# Altium integrated library Linear Technology Power Management Power-Over-Ethernet (PoE) Interface Controllers.IntLib: 174 symbols (part 6 of 16)
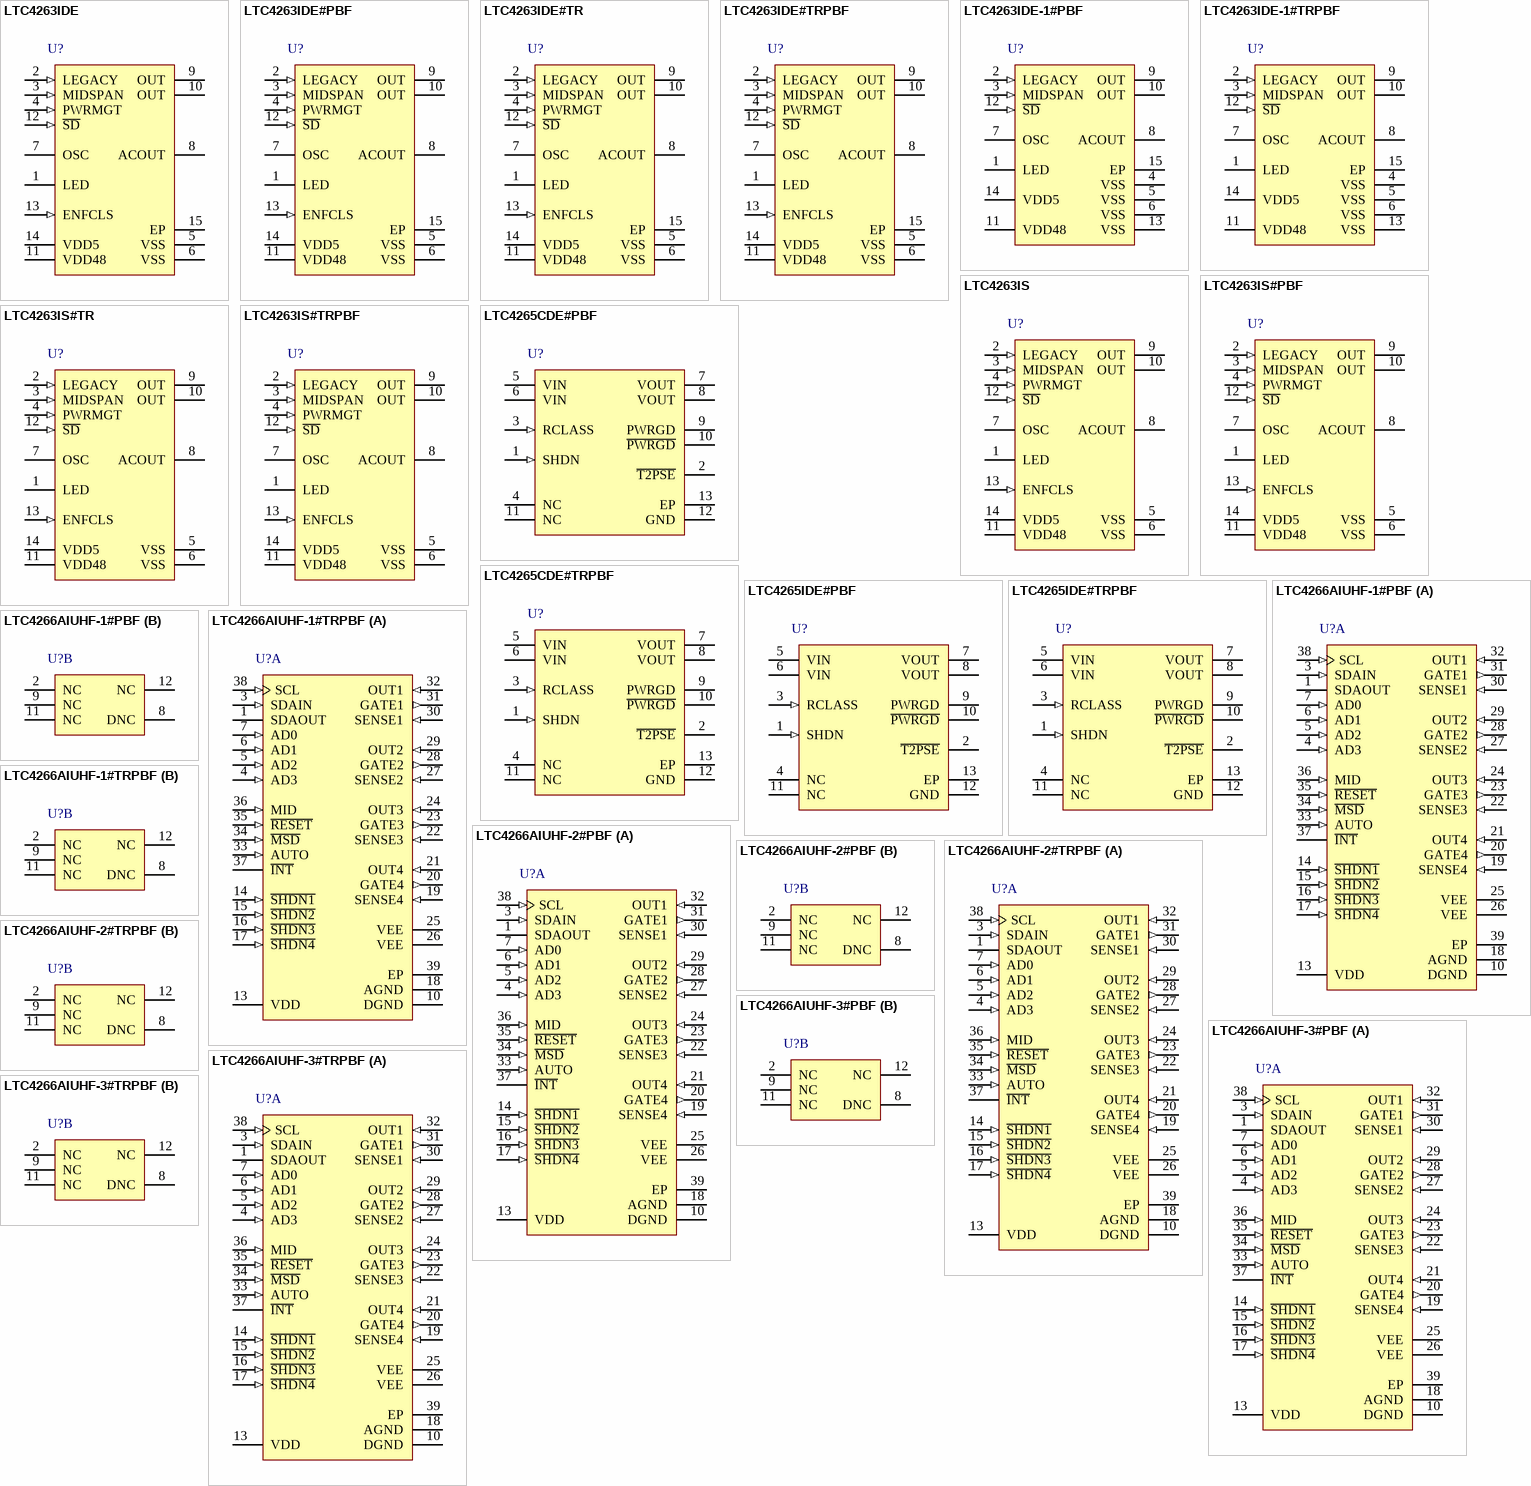
[diagram p13: symbols LTC4263IDE to LTC4266AIUHF-3#TRPBF]

## LTC4266AIUHF-3#PBF
designator U?
Quad PoE / PoE+ / LTPoE++ PSE Controller, 38-pin QFN (UHF-38), -40 to 85 degC, Pb-Free; Manufacturer: Linear Technology; PartNumber: LTC4266AIUHF-3#PBF; Channels(#): 4; Extended Temp: I; I2C Interface: yes; Max Power(W): 70; DatasheetVersion: Rev. C; PackageVersion: Rev. C, 06/2010; PackageReference: UHF-38; PackageDescription: 38-Pin Plastic QFN, Body 7 x 5 mm, Pitch 0.5 mm; Supplier 1: Digi-Key; Supplier Part Number 1: LTC4266AIUHF-3#PBF-ND; Supplier 2: Farnell; Supplier Part Number 2: 2293145; Supplier 3: Newark; Supplier Part Number 3: 59T5702; PoE Type: LTPoE++; PSE/PD: PSE; RoHS: TRUE; Mounting Technology: Surface Mount; Code_JEDEC: MO-220; ComponentLink1Description: Manufacturer URL; ComponentLink1URL: http://www.linear.com/; ComponentLink2Description: Datasheet; ComponentLink2URL: http://cds.linear.com/docs/en/datasheet/4266acfc.pdf; ComponentLink3Description: Package Specification; ComponentLink3URL: http://cds.linear.com/docs/en/packaging/QFN_38_05-08-1701.pdf
footprint LT-UHF-38_N (QFN, 38-Leads, Body 7.1x5.1mm, Pitch 0.5mm, Thermal Pad 3.15x5.15mm, IPC Medium Density)
footprint LT-UHF-38_L (QFN, 38-Leads, Body 7.1x5.1mm, Pitch 0.5mm, Thermal Pad 3.15x5.15mm, IPC High Density)
footprint LT-UHF-38_M (QFN, 38-Leads, Body 7.1x5.1mm, Pitch 0.5mm, Thermal Pad 3.15x5.15mm, IPC Low Density)
part A pins: 1 SDAOUT (oc) "SDAOUT: Serial Data Output, Open Drain Data Output for the I2C Serial Interface Bus. The LTC4266A/LTC4266C uses two pins to implement the bidirectional SDA function to simplify optoisolation of the I2C bus. To implement a (See Datasheet)", 3 SDAIN (in) "SDAIN: Serial Data Input. High impedance data input for the I2C serial interface bus. The LTC4266A/LTC4266C uses two pins to implement the bidirectional SDA function to simplify optoisolation of the I2C bus. To implement a (See Datasheet)", 4 AD3 (in) "AD3: Address Bit 3. Tie the address pins high or low to set the I2C serial address to which the LTC4266A/LTC4266C responds. This address will be 010A3A2A1A0b. Internally pulled up to VDD.", 5 AD2 (in) "AD2: Address Bit 2. See AD3.", 6 AD1 (in) "AD1: Address Bit 1. See AD3.", 7 AD0 (in) "AD0: Address Bit 0. See AD3.", 10 DGND (power) "DGND: Digital Ground. DGND is the return for the VDD supply.", 13 VDD (power) "VDD: Logic Power Supply. Connect to a 3.3V power supply relative to DGND. VDD must be bypassed to DGND near the LTC4266A/LTC4266C with at least a 0.1uF capacitor.", 14 ~{SHDN1} (in) "S\H\D\N\1\: Shutdown Port 1, Active Low. When pulled low, S\H\D\N\1\ shuts down port 1, regardless of the state of the internal registers. Pulling S\H\D\N\1\ low is equivalent to setting the Reset Port 1 bit in the Reset (See Datasheet)", 15 ~{SHDN2} (in) "S\H\D\N\2\: Shutdown Port 2, Active Low. See S\H\D\N\1\.", 16 ~{SHDN3} (in) "S\H\D\N\3\: Shutdown Port 3, Active Low. See S\H\D\N\1\.", 17 ~{SHDN4} (in) "S\H\D\N\4\: Shutdown Port 4, Active Low. See S\H\D\N\1\.", 18 AGND (power) "AGND: Analog Ground. AGND is the return for the VEE supply.", 19 SENSE4 (in) "SENSE4: Port 4 Current Sense Input. SENSE4 monitors the external MOSFET current via a 0.5ohm or 0.25ohm sense resistor between SENSE4 and VEE. Whenever the voltage across the sense resistor exceeds the overcurrent detection (See Datasheet)", 20 GATE4 (out) "GATE4: Port 4 Gate Drive. GATE4 should be connected to the gate of the external MOSFET for port 4. When the MOSFET is turned on, the gate voltage is driven to 12V (typ) above VEE. During a current limit condition, the (See Datasheet)", 21 OUT4 (in) "OUT4: Port 4 Output Voltage Monitor. OUT4 should be connected to the output port. A current limit foldback circuit limits the power dissipation in the external MOSFET by reducing the current limit threshold when the (See Datasheet)", 22 SENSE3 (in) "SENSE3: Port 3 Current Sense Input. See SENSE4.", 23 GATE3 (out) "GATE3: Port 3 Gate Drive. See GATE4.", 24 OUT3 (in) "OUT3: Port 3 Output Voltage Monitor. See OUT4.", 25 VEE (power) "VEE: Main Supply Input. Connect to a -45V to -57V supply, relative to AGND.", 26 VEE (power) "VEE: Main Supply Input. Connect to a -45V to -57V supply, relative to AGND.", 27 SENSE2 (in) "SENSE2: Port 2 Current Sense Input. See SENSE4.", 28 GATE2 (out) "GATE2: Port 2 Gate Drive. See GATE4.", 29 OUT2 (in) "OUT2: Port 2 Output Voltage Monitor. See OUT4.", 30 SENSE1 (in) "SENSE1: Port 1 Current Sense Input. See SENSE4.", 31 GATE1 (out) "GATE1: Port 1 Gate Drive. See GATE 4.", 32 OUT1 (in) "OUT1: Port 1 Output Voltage Monitor. See OUT4.", 33 AUTO (in) "AUTO: AUTO Pin Mode Input. AUTO pin mode allows the LTC4266A/LTC4266C to detect and power up a PD even if there is no host controller present on the I2C bus. The voltage of the AUTO pin determines the state of the internal (See Datasheet)", 34 ~{MSD} (in) "M\S\D\: Maskable Shutdown Input. Active low. When pulled low, all ports that have their corresponding mask bit set in the Misc Config register (17h) will be reset, equivalent to pulling the S\H\D\N\ pin low. Internal (See Datasheet)", 35 ~{RESET} (in) "R\E\S\E\T\: Chip R\E\S\E\T\, Active Low. When the R\E\S\E\T\ pin is low, the LTC4266A/LTC4266C is held inactive with all ports off and all internal registers R\E\S\E\T\ to their power-up states. When R\E\S\E\T\ is pulled (See Datasheet)", 36 MID (in) "MID: Midspan Mode Input. When high, the LTC4266A/LTC4266C acts as a midspan device. Internally pulled down to DGND.", 37 ~{INT} (hiz) "I\N\T\: I\N\T\errupt Output, Open Drain. I\N\T\ will pull low when any one of several events occur in the LTC4266A/LTC4266C. It will return to a high impedance state when bits 6 or 7 are set in the Reset PB register (1Ah). (See Datasheet)", 38 SCL (in) "SCL: Serial Clock Input. High impedance clock input for the I2C serial interface bus. SCL must be tied high if not used.", 39 EP (power)
part B pins: 2 NC "NC, DNC: All pins identified with "NC" or "DNC" must be left unconnected.", 8 DNC "NC, DNC: All pins identified with "NC" or "DNC" must be left unconnected.", 9 NC "NC, DNC: All pins identified with "NC" or "DNC" must be left unconnected.", 11 NC "NC, DNC: All pins identified with "NC" or "DNC" must be left unconnected.", 12 NC "NC, DNC: All pins identified with "NC" or "DNC" must be left unconnected."

## LTC4266AIUHF-3#TRPBF
designator U?
Quad PoE / PoE+ / LTPoE++ PSE Controller, 38-pin QFN (UHF-38), -40 to 85 degC, Pb-Free, Tape and Reel; Manufacturer: Linear Technology; PartNumber: LTC4266AIUHF-3#TRPBF; Channels(#): 4; Extended Temp: I; I2C Interface: yes; Max Power(W): 70; DatasheetVersion: Rev. C; PackageVersion: Rev. C, 06/2010; PackageReference: UHF-38; PackageDescription: 38-Pin Plastic QFN, Body 7 x 5 mm, Pitch 0.5 mm; Supplier 1: Digi-Key; Supplier Part Number 1: LTC4266AIUHF-3#TRPBF-ND; Packing: Tape and Reel; PoE Type: LTPoE++; PSE/PD: PSE; RoHS: TRUE; Mounting Technology: Surface Mount; Code_JEDEC: MO-220; ComponentLink1Description: Manufacturer URL; ComponentLink1URL: http://www.linear.com/; ComponentLink2Description: Datasheet; ComponentLink2URL: http://cds.linear.com/docs/en/datasheet/4266acfc.pdf; ComponentLink3Description: Package Specification; ComponentLink3URL: http://cds.linear.com/docs/en/packaging/QFN_38_05-08-1701.pdf
footprint LT-UHF-38_N (QFN, 38-Leads, Body 7.1x5.1mm, Pitch 0.5mm, Thermal Pad 3.15x5.15mm, IPC Medium Density)
footprint LT-UHF-38_L (QFN, 38-Leads, Body 7.1x5.1mm, Pitch 0.5mm, Thermal Pad 3.15x5.15mm, IPC High Density)
footprint LT-UHF-38_M (QFN, 38-Leads, Body 7.1x5.1mm, Pitch 0.5mm, Thermal Pad 3.15x5.15mm, IPC Low Density)
part A pins: 1 SDAOUT (oc) "SDAOUT: Serial Data Output, Open Drain Data Output for the I2C Serial Interface Bus. The LTC4266A/LTC4266C uses two pins to implement the bidirectional SDA function to simplify optoisolation of the I2C bus. To implement a (See Datasheet)", 3 SDAIN (in) "SDAIN: Serial Data Input. High impedance data input for the I2C serial interface bus. The LTC4266A/LTC4266C uses two pins to implement the bidirectional SDA function to simplify optoisolation of the I2C bus. To implement a (See Datasheet)", 4 AD3 (in) "AD3: Address Bit 3. Tie the address pins high or low to set the I2C serial address to which the LTC4266A/LTC4266C responds. This address will be 010A3A2A1A0b. Internally pulled up to VDD.", 5 AD2 (in) "AD2: Address Bit 2. See AD3.", 6 AD1 (in) "AD1: Address Bit 1. See AD3.", 7 AD0 (in) "AD0: Address Bit 0. See AD3.", 10 DGND (power) "DGND: Digital Ground. DGND is the return for the VDD supply.", 13 VDD (power) "VDD: Logic Power Supply. Connect to a 3.3V power supply relative to DGND. VDD must be bypassed to DGND near the LTC4266A/LTC4266C with at least a 0.1uF capacitor.", 14 ~{SHDN1} (in) "S\H\D\N\1\: Shutdown Port 1, Active Low. When pulled low, S\H\D\N\1\ shuts down port 1, regardless of the state of the internal registers. Pulling S\H\D\N\1\ low is equivalent to setting the Reset Port 1 bit in the Reset (See Datasheet)", 15 ~{SHDN2} (in) "S\H\D\N\2\: Shutdown Port 2, Active Low. See S\H\D\N\1\.", 16 ~{SHDN3} (in) "S\H\D\N\3\: Shutdown Port 3, Active Low. See S\H\D\N\1\.", 17 ~{SHDN4} (in) "S\H\D\N\4\: Shutdown Port 4, Active Low. See S\H\D\N\1\.", 18 AGND (power) "AGND: Analog Ground. AGND is the return for the VEE supply.", 19 SENSE4 (in) "SENSE4: Port 4 Current Sense Input. SENSE4 monitors the external MOSFET current via a 0.5ohm or 0.25ohm sense resistor between SENSE4 and VEE. Whenever the voltage across the sense resistor exceeds the overcurrent detection (See Datasheet)", 20 GATE4 (out) "GATE4: Port 4 Gate Drive. GATE4 should be connected to the gate of the external MOSFET for port 4. When the MOSFET is turned on, the gate voltage is driven to 12V (typ) above VEE. During a current limit condition, the (See Datasheet)", 21 OUT4 (in) "OUT4: Port 4 Output Voltage Monitor. OUT4 should be connected to the output port. A current limit foldback circuit limits the power dissipation in the external MOSFET by reducing the current limit threshold when the (See Datasheet)", 22 SENSE3 (in) "SENSE3: Port 3 Current Sense Input. See SENSE4.", 23 GATE3 (out) "GATE3: Port 3 Gate Drive. See GATE4.", 24 OUT3 (in) "OUT3: Port 3 Output Voltage Monitor. See OUT4.", 25 VEE (power) "VEE: Main Supply Input. Connect to a -45V to -57V supply, relative to AGND.", 26 VEE (power) "VEE: Main Supply Input. Connect to a -45V to -57V supply, relative to AGND.", 27 SENSE2 (in) "SENSE2: Port 2 Current Sense Input. See SENSE4.", 28 GATE2 (out) "GATE2: Port 2 Gate Drive. See GATE4.", 29 OUT2 (in) "OUT2: Port 2 Output Voltage Monitor. See OUT4.", 30 SENSE1 (in) "SENSE1: Port 1 Current Sense Input. See SENSE4.", 31 GATE1 (out) "GATE1: Port 1 Gate Drive. See GATE 4.", 32 OUT1 (in) "OUT1: Port 1 Output Voltage Monitor. See OUT4.", 33 AUTO (in) "AUTO: AUTO Pin Mode Input. AUTO pin mode allows the LTC4266A/LTC4266C to detect and power up a PD even if there is no host controller present on the I2C bus. The voltage of the AUTO pin determines the state of the internal (See Datasheet)", 34 ~{MSD} (in) "M\S\D\: Maskable Shutdown Input. Active low. When pulled low, all ports that have their corresponding mask bit set in the Misc Config register (17h) will be reset, equivalent to pulling the S\H\D\N\ pin low. Internal (See Datasheet)", 35 ~{RESET} (in) "R\E\S\E\T\: Chip R\E\S\E\T\, Active Low. When the R\E\S\E\T\ pin is low, the LTC4266A/LTC4266C is held inactive with all ports off and all internal registers R\E\S\E\T\ to their power-up states. When R\E\S\E\T\ is pulled (See Datasheet)", 36 MID (in) "MID: Midspan Mode Input. When high, the LTC4266A/LTC4266C acts as a midspan device. Internally pulled down to DGND.", 37 ~{INT} (hiz) "I\N\T\: I\N\T\errupt Output, Open Drain. I\N\T\ will pull low when any one of several events occur in the LTC4266A/LTC4266C. It will return to a high impedance state when bits 6 or 7 are set in the Reset PB register (1Ah). (See Datasheet)", 38 SCL (in) "SCL: Serial Clock Input. High impedance clock input for the I2C serial interface bus. SCL must be tied high if not used.", 39 EP (power)
part B pins: 2 NC "NC, DNC: All pins identified with "NC" or "DNC" must be left unconnected.", 8 DNC "NC, DNC: All pins identified with "NC" or "DNC" must be left unconnected.", 9 NC "NC, DNC: All pins identified with "NC" or "DNC" must be left unconnected.", 11 NC "NC, DNC: All pins identified with "NC" or "DNC" must be left unconnected.", 12 NC "NC, DNC: All pins identified with "NC" or "DNC" must be left unconnected."

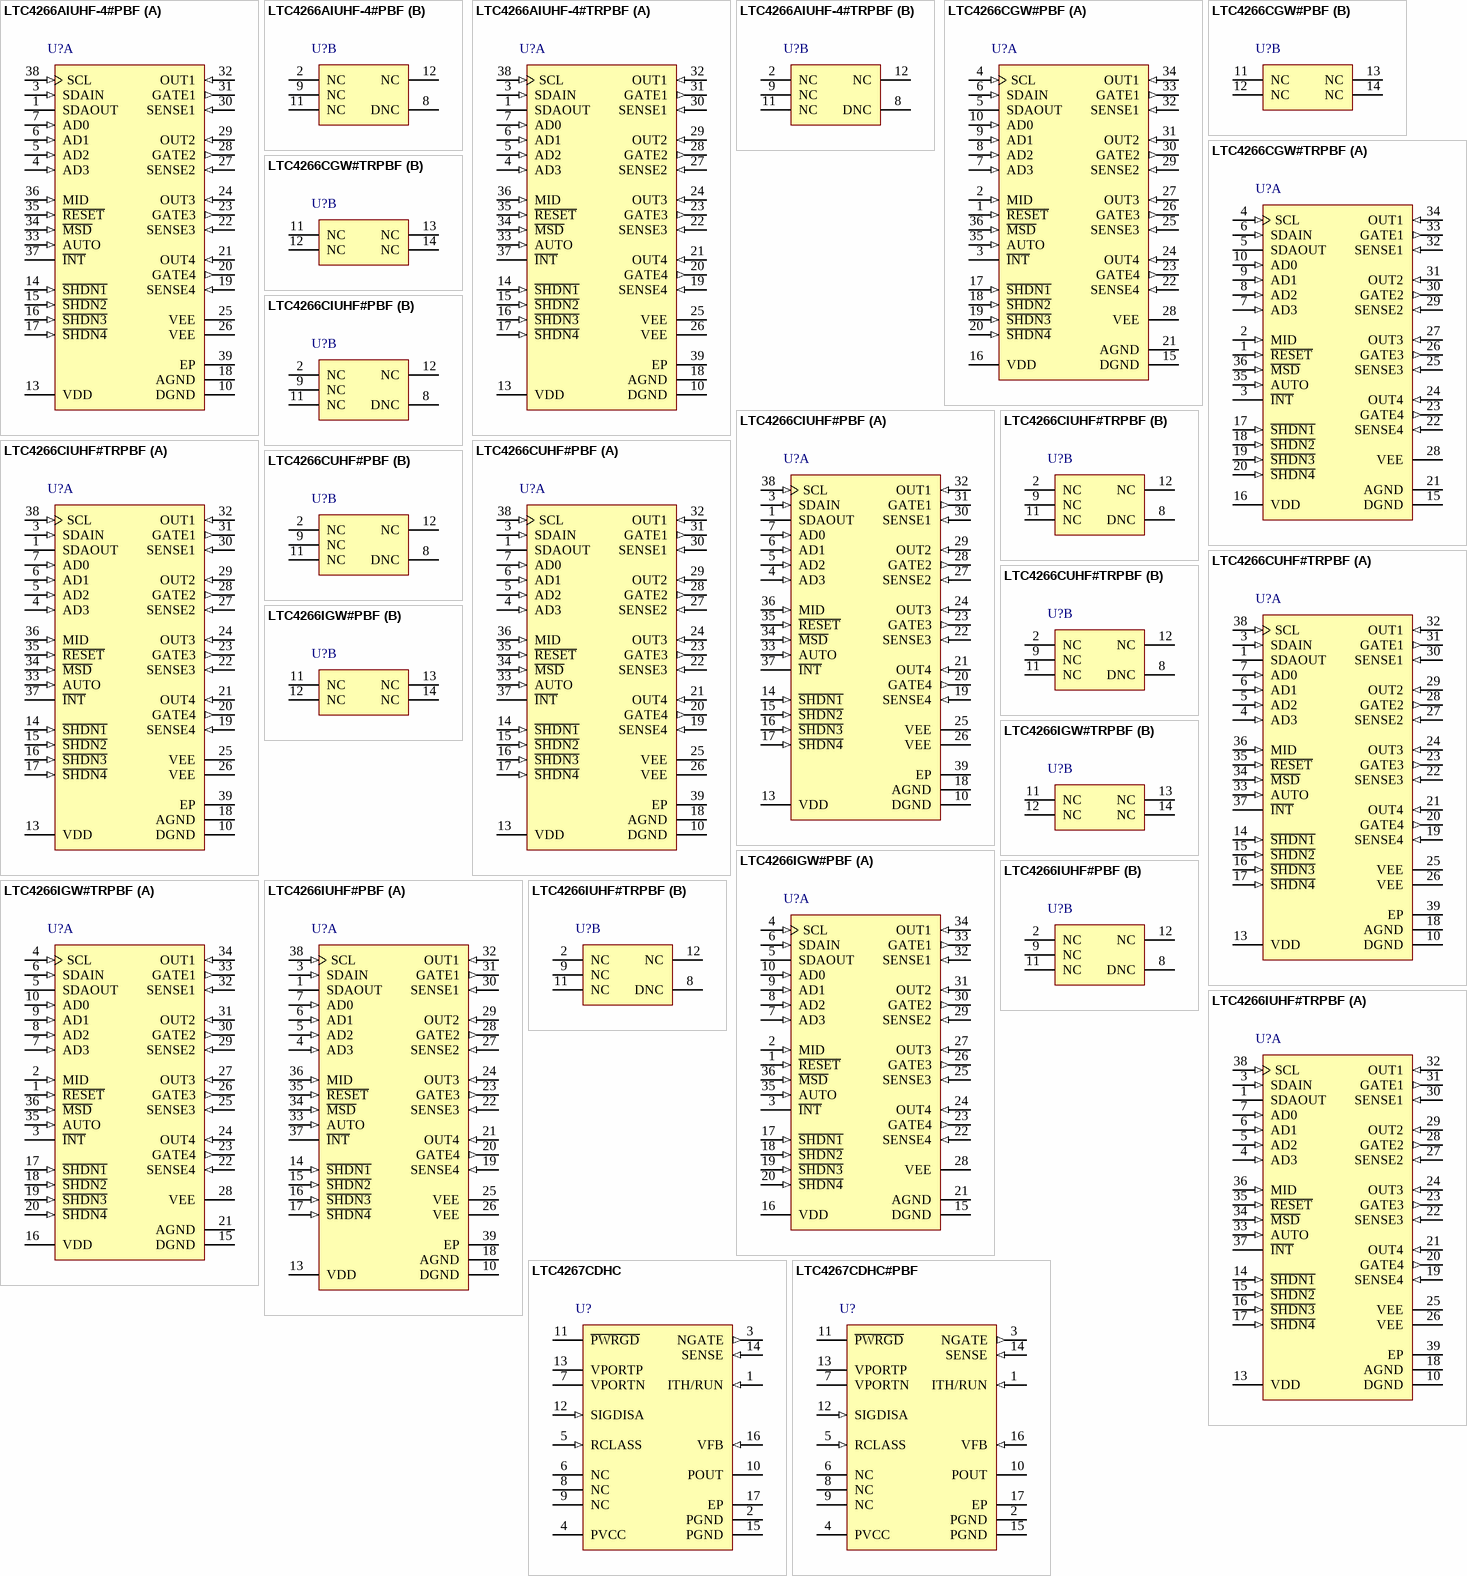
[diagram p3: symbols LTC4266AIUHF-4#PBF to LTC4267CDHC#PBF]

## LTC4266AIUHF-4#PBF
designator U?
Quad PoE / PoE+ / LTPoE++ PSE Controller, 38-pin QFN (UHF-38), -40 to 85 degC, Pb-Free; Manufacturer: Linear Technology; PartNumber: LTC4266AIUHF-4#PBF; Channels(#): 4; Extended Temp: I; I2C Interface: yes; Max Power(W): 90; DatasheetVersion: Rev. C; PackageVersion: Rev. C, 06/2010; PackageReference: UHF-38; PackageDescription: 38-Pin Plastic QFN, Body 7 x 5 mm, Pitch 0.5 mm; Supplier 1: Digi-Key; Supplier Part Number 1: LTC4266AIUHF-4#PBF-ND; Supplier 2: Farnell; Supplier Part Number 2: 2293147; Supplier 3: Newark; Supplier Part Number 3: 59T5704; PoE Type: LTPoE++; PSE/PD: PSE; RoHS: TRUE; Mounting Technology: Surface Mount; Code_JEDEC: MO-220; ComponentLink1Description: Manufacturer URL; ComponentLink1URL: http://www.linear.com/; ComponentLink2Description: Datasheet; ComponentLink2URL: http://cds.linear.com/docs/en/datasheet/4266acfc.pdf; ComponentLink3Description: Package Specification; ComponentLink3URL: http://cds.linear.com/docs/en/packaging/QFN_38_05-08-1701.pdf
footprint LT-UHF-38_N (QFN, 38-Leads, Body 7.1x5.1mm, Pitch 0.5mm, Thermal Pad 3.15x5.15mm, IPC Medium Density)
footprint LT-UHF-38_L (QFN, 38-Leads, Body 7.1x5.1mm, Pitch 0.5mm, Thermal Pad 3.15x5.15mm, IPC High Density)
footprint LT-UHF-38_M (QFN, 38-Leads, Body 7.1x5.1mm, Pitch 0.5mm, Thermal Pad 3.15x5.15mm, IPC Low Density)
part A pins: 1 SDAOUT (oc) "SDAOUT: Serial Data Output, Open Drain Data Output for the I2C Serial Interface Bus. The LTC4266A/LTC4266C uses two pins to implement the bidirectional SDA function to simplify optoisolation of the I2C bus. To implement a (See Datasheet)", 3 SDAIN (in) "SDAIN: Serial Data Input. High impedance data input for the I2C serial interface bus. The LTC4266A/LTC4266C uses two pins to implement the bidirectional SDA function to simplify optoisolation of the I2C bus. To implement a (See Datasheet)", 4 AD3 (in) "AD3: Address Bit 3. Tie the address pins high or low to set the I2C serial address to which the LTC4266A/LTC4266C responds. This address will be 010A3A2A1A0b. Internally pulled up to VDD.", 5 AD2 (in) "AD2: Address Bit 2. See AD3.", 6 AD1 (in) "AD1: Address Bit 1. See AD3.", 7 AD0 (in) "AD0: Address Bit 0. See AD3.", 10 DGND (power) "DGND: Digital Ground. DGND is the return for the VDD supply.", 13 VDD (power) "VDD: Logic Power Supply. Connect to a 3.3V power supply relative to DGND. VDD must be bypassed to DGND near the LTC4266A/LTC4266C with at least a 0.1uF capacitor.", 14 ~{SHDN1} (in) "S\H\D\N\1\: Shutdown Port 1, Active Low. When pulled low, S\H\D\N\1\ shuts down port 1, regardless of the state of the internal registers. Pulling S\H\D\N\1\ low is equivalent to setting the Reset Port 1 bit in the Reset (See Datasheet)", 15 ~{SHDN2} (in) "S\H\D\N\2\: Shutdown Port 2, Active Low. See S\H\D\N\1\.", 16 ~{SHDN3} (in) "S\H\D\N\3\: Shutdown Port 3, Active Low. See S\H\D\N\1\.", 17 ~{SHDN4} (in) "S\H\D\N\4\: Shutdown Port 4, Active Low. See S\H\D\N\1\.", 18 AGND (power) "AGND: Analog Ground. AGND is the return for the VEE supply.", 19 SENSE4 (in) "SENSE4: Port 4 Current Sense Input. SENSE4 monitors the external MOSFET current via a 0.5ohm or 0.25ohm sense resistor between SENSE4 and VEE. Whenever the voltage across the sense resistor exceeds the overcurrent detection (See Datasheet)", 20 GATE4 (out) "GATE4: Port 4 Gate Drive. GATE4 should be connected to the gate of the external MOSFET for port 4. When the MOSFET is turned on, the gate voltage is driven to 12V (typ) above VEE. During a current limit condition, the (See Datasheet)", 21 OUT4 (in) "OUT4: Port 4 Output Voltage Monitor. OUT4 should be connected to the output port. A current limit foldback circuit limits the power dissipation in the external MOSFET by reducing the current limit threshold when the (See Datasheet)", 22 SENSE3 (in) "SENSE3: Port 3 Current Sense Input. See SENSE4.", 23 GATE3 (out) "GATE3: Port 3 Gate Drive. See GATE4.", 24 OUT3 (in) "OUT3: Port 3 Output Voltage Monitor. See OUT4.", 25 VEE (power) "VEE: Main Supply Input. Connect to a -45V to -57V supply, relative to AGND.", 26 VEE (power) "VEE: Main Supply Input. Connect to a -45V to -57V supply, relative to AGND.", 27 SENSE2 (in) "SENSE2: Port 2 Current Sense Input. See SENSE4.", 28 GATE2 (out) "GATE2: Port 2 Gate Drive. See GATE4.", 29 OUT2 (in) "OUT2: Port 2 Output Voltage Monitor. See OUT4.", 30 SENSE1 (in) "SENSE1: Port 1 Current Sense Input. See SENSE4.", 31 GATE1 (out) "GATE1: Port 1 Gate Drive. See GATE 4.", 32 OUT1 (in) "OUT1: Port 1 Output Voltage Monitor. See OUT4.", 33 AUTO (in) "AUTO: AUTO Pin Mode Input. AUTO pin mode allows the LTC4266A/LTC4266C to detect and power up a PD even if there is no host controller present on the I2C bus. The voltage of the AUTO pin determines the state of the internal (See Datasheet)", 34 ~{MSD} (in) "M\S\D\: Maskable Shutdown Input. Active low. When pulled low, all ports that have their corresponding mask bit set in the Misc Config register (17h) will be reset, equivalent to pulling the S\H\D\N\ pin low. Internal (See Datasheet)", 35 ~{RESET} (in) "R\E\S\E\T\: Chip R\E\S\E\T\, Active Low. When the R\E\S\E\T\ pin is low, the LTC4266A/LTC4266C is held inactive with all ports off and all internal registers R\E\S\E\T\ to their power-up states. When R\E\S\E\T\ is pulled (See Datasheet)", 36 MID (in) "MID: Midspan Mode Input. When high, the LTC4266A/LTC4266C acts as a midspan device. Internally pulled down to DGND.", 37 ~{INT} (hiz) "I\N\T\: I\N\T\errupt Output, Open Drain. I\N\T\ will pull low when any one of several events occur in the LTC4266A/LTC4266C. It will return to a high impedance state when bits 6 or 7 are set in the Reset PB register (1Ah). (See Datasheet)", 38 SCL (in) "SCL: Serial Clock Input. High impedance clock input for the I2C serial interface bus. SCL must be tied high if not used.", 39 EP (power)
part B pins: 2 NC "NC, DNC: All pins identified with "NC" or "DNC" must be left unconnected.", 8 DNC "NC, DNC: All pins identified with "NC" or "DNC" must be left unconnected.", 9 NC "NC, DNC: All pins identified with "NC" or "DNC" must be left unconnected.", 11 NC "NC, DNC: All pins identified with "NC" or "DNC" must be left unconnected.", 12 NC "NC, DNC: All pins identified with "NC" or "DNC" must be left unconnected."

## LTC4266AIUHF-4#TRPBF
designator U?
Quad PoE / PoE+ / LTPoE++ PSE Controller, 38-pin QFN (UHF-38), -40 to 85 degC, Pb-Free, Tape and Reel; Manufacturer: Linear Technology; PartNumber: LTC4266AIUHF-4#TRPBF; Channels(#): 4; Extended Temp: I; I2C Interface: yes; Max Power(W): 90; DatasheetVersion: Rev. C; PackageVersion: Rev. C, 06/2010; PackageReference: UHF-38; PackageDescription: 38-Pin Plastic QFN, Body 7 x 5 mm, Pitch 0.5 mm; Supplier 1: Digi-Key; Supplier Part Number 1: LTC4266AIUHF-4#TRPBF-ND; Supplier 2: Newark; Supplier Part Number 2: 59T5705; Packing: Tape and Reel; PoE Type: LTPoE++; PSE/PD: PSE; RoHS: TRUE; Mounting Technology: Surface Mount; Code_JEDEC: MO-220; ComponentLink1Description: Manufacturer URL; ComponentLink1URL: http://www.linear.com/; ComponentLink2Description: Datasheet; ComponentLink2URL: http://cds.linear.com/docs/en/datasheet/4266acfc.pdf; ComponentLink3Description: Package Specification; ComponentLink3URL: http://cds.linear.com/docs/en/packaging/QFN_38_05-08-1701.pdf
footprint LT-UHF-38_N (QFN, 38-Leads, Body 7.1x5.1mm, Pitch 0.5mm, Thermal Pad 3.15x5.15mm, IPC Medium Density)
footprint LT-UHF-38_L (QFN, 38-Leads, Body 7.1x5.1mm, Pitch 0.5mm, Thermal Pad 3.15x5.15mm, IPC High Density)
footprint LT-UHF-38_M (QFN, 38-Leads, Body 7.1x5.1mm, Pitch 0.5mm, Thermal Pad 3.15x5.15mm, IPC Low Density)
part A pins: 1 SDAOUT (oc) "SDAOUT: Serial Data Output, Open Drain Data Output for the I2C Serial Interface Bus. The LTC4266A/LTC4266C uses two pins to implement the bidirectional SDA function to simplify optoisolation of the I2C bus. To implement a (See Datasheet)", 3 SDAIN (in) "SDAIN: Serial Data Input. High impedance data input for the I2C serial interface bus. The LTC4266A/LTC4266C uses two pins to implement the bidirectional SDA function to simplify optoisolation of the I2C bus. To implement a (See Datasheet)", 4 AD3 (in) "AD3: Address Bit 3. Tie the address pins high or low to set the I2C serial address to which the LTC4266A/LTC4266C responds. This address will be 010A3A2A1A0b. Internally pulled up to VDD.", 5 AD2 (in) "AD2: Address Bit 2. See AD3.", 6 AD1 (in) "AD1: Address Bit 1. See AD3.", 7 AD0 (in) "AD0: Address Bit 0. See AD3.", 10 DGND (power) "DGND: Digital Ground. DGND is the return for the VDD supply.", 13 VDD (power) "VDD: Logic Power Supply. Connect to a 3.3V power supply relative to DGND. VDD must be bypassed to DGND near the LTC4266A/LTC4266C with at least a 0.1uF capacitor.", 14 ~{SHDN1} (in) "S\H\D\N\1\: Shutdown Port 1, Active Low. When pulled low, S\H\D\N\1\ shuts down port 1, regardless of the state of the internal registers. Pulling S\H\D\N\1\ low is equivalent to setting the Reset Port 1 bit in the Reset (See Datasheet)", 15 ~{SHDN2} (in) "S\H\D\N\2\: Shutdown Port 2, Active Low. See S\H\D\N\1\.", 16 ~{SHDN3} (in) "S\H\D\N\3\: Shutdown Port 3, Active Low. See S\H\D\N\1\.", 17 ~{SHDN4} (in) "S\H\D\N\4\: Shutdown Port 4, Active Low. See S\H\D\N\1\.", 18 AGND (power) "AGND: Analog Ground. AGND is the return for the VEE supply.", 19 SENSE4 (in) "SENSE4: Port 4 Current Sense Input. SENSE4 monitors the external MOSFET current via a 0.5ohm or 0.25ohm sense resistor between SENSE4 and VEE. Whenever the voltage across the sense resistor exceeds the overcurrent detection (See Datasheet)", 20 GATE4 (out) "GATE4: Port 4 Gate Drive. GATE4 should be connected to the gate of the external MOSFET for port 4. When the MOSFET is turned on, the gate voltage is driven to 12V (typ) above VEE. During a current limit condition, the (See Datasheet)", 21 OUT4 (in) "OUT4: Port 4 Output Voltage Monitor. OUT4 should be connected to the output port. A current limit foldback circuit limits the power dissipation in the external MOSFET by reducing the current limit threshold when the (See Datasheet)", 22 SENSE3 (in) "SENSE3: Port 3 Current Sense Input. See SENSE4.", 23 GATE3 (out) "GATE3: Port 3 Gate Drive. See GATE4.", 24 OUT3 (in) "OUT3: Port 3 Output Voltage Monitor. See OUT4.", 25 VEE (power) "VEE: Main Supply Input. Connect to a -45V to -57V supply, relative to AGND.", 26 VEE (power) "VEE: Main Supply Input. Connect to a -45V to -57V supply, relative to AGND.", 27 SENSE2 (in) "SENSE2: Port 2 Current Sense Input. See SENSE4.", 28 GATE2 (out) "GATE2: Port 2 Gate Drive. See GATE4.", 29 OUT2 (in) "OUT2: Port 2 Output Voltage Monitor. See OUT4.", 30 SENSE1 (in) "SENSE1: Port 1 Current Sense Input. See SENSE4.", 31 GATE1 (out) "GATE1: Port 1 Gate Drive. See GATE 4.", 32 OUT1 (in) "OUT1: Port 1 Output Voltage Monitor. See OUT4.", 33 AUTO (in) "AUTO: AUTO Pin Mode Input. AUTO pin mode allows the LTC4266A/LTC4266C to detect and power up a PD even if there is no host controller present on the I2C bus. The voltage of the AUTO pin determines the state of the internal (See Datasheet)", 34 ~{MSD} (in) "M\S\D\: Maskable Shutdown Input. Active low. When pulled low, all ports that have their corresponding mask bit set in the Misc Config register (17h) will be reset, equivalent to pulling the S\H\D\N\ pin low. Internal (See Datasheet)", 35 ~{RESET} (in) "R\E\S\E\T\: Chip R\E\S\E\T\, Active Low. When the R\E\S\E\T\ pin is low, the LTC4266A/LTC4266C is held inactive with all ports off and all internal registers R\E\S\E\T\ to their power-up states. When R\E\S\E\T\ is pulled (See Datasheet)", 36 MID (in) "MID: Midspan Mode Input. When high, the LTC4266A/LTC4266C acts as a midspan device. Internally pulled down to DGND.", 37 ~{INT} (hiz) "I\N\T\: I\N\T\errupt Output, Open Drain. I\N\T\ will pull low when any one of several events occur in the LTC4266A/LTC4266C. It will return to a high impedance state when bits 6 or 7 are set in the Reset PB register (1Ah). (See Datasheet)", 38 SCL (in) "SCL: Serial Clock Input. High impedance clock input for the I2C serial interface bus. SCL must be tied high if not used.", 39 EP (power)
part B pins: 2 NC "NC, DNC: All pins identified with "NC" or "DNC" must be left unconnected.", 8 DNC "NC, DNC: All pins identified with "NC" or "DNC" must be left unconnected.", 9 NC "NC, DNC: All pins identified with "NC" or "DNC" must be left unconnected.", 11 NC "NC, DNC: All pins identified with "NC" or "DNC" must be left unconnected.", 12 NC "NC, DNC: All pins identified with "NC" or "DNC" must be left unconnected."

## LTC4266CGW#PBF
designator U?
Quad IEEE 802.3at Power over Ethernet Controller, 36-pin SOP (GW-36), 0 to 70 degC, Pb-Free; Manufacturer: Linear Technology; PartNumber: LTC4266CGW#PBF; Channels(#): 4; Extended Temp: C, I; I2C Interface: yes; Max Power(W): 25.5; PoE Type: 2; PSE/PD: PSE; DatasheetVersion: Rev. D; PackageVersion: Jun-10; PackageReference: GW-36; PackageDescription: 36-Pin Plastic SSOP, Body 15.418 x 7.506 mm, Pitch 0.8 mm; Supplier 1: Farnell; Supplier Part Number 1: 2295356; Supplier 2: Newark; Supplier Part Number 2: 24R3323; RoHS: TRUE; Mounting Technology: Surface Mount; ComponentLink1Description: Manufacturer URL; ComponentLink1URL: http://www.linear.com/; ComponentLink2Description: Datasheet; ComponentLink2URL: http://cds.linear.com/docs/en/datasheet/4266fd.pdf; ComponentLink3Description: Package Specification; ComponentLink3URL: http://cds.linear.com/docs/en/packaging/SSOP_36_05-08-1642.pdf
footprint LT-GW-36_N (SOP, 36-Leads, Body 15.5x7.6mm, Pitch 0.8mm, IPC Medium Density)
footprint LT-GW-36_L (SOP, 36-Leads, Body 15.5x7.6mm, Pitch 0.8mm, IPC High Density)
footprint LT-GW-36_M (SOP, 36-Leads, Body 15.5x7.6mm, Pitch 0.8mm, IPC Low Density)
part A pins: 1 ~{RESET} (in) "Chip Reset, Active Low. When the R\E\S\E\T\ pin is low, the LTC4266 is held inactive with all ports off and all internal registers reset to their power-up states. When R\E\S\E\T\ is pulled high, the LTC4266 begins normal (See Datasheet)", 2 MID (in) "Midspan Mode Input. When high, the LTC4266 acts as a midspan device. Internally pulled down to DGND.", 3 ~{INT} (hiz) "Interrupt Output, Open Drain. I\N\T\ will pull low when any one of several events occur in the LTC4266. It will return to a high impedance state when bits 6 or 7 are set in the Reset PB register (1Ah). The I\N\T\ signal can (See Datasheet)", 4 SCL (in) "Serial Clock Input. High impedance clock input for the I2C serial interface bus. SCL must be tied high if not used.", 5 SDAOUT (oc) "Serial Data Output, Open Drain Data Output for the I2C Serial Interface Bus. The LTC4266 uses two pins to implement the bidirectional SDA function to simplify optoisolation of the I2C bus. To implement a standard (See Datasheet)", 6 SDAIN (in) "Serial Data Input. High impedance data input for the I2C serial interface bus. The LTC4266 uses two pins to implement the bidirectional SDA function to simplify optoisolation of the I2C bus. To implement a standard (See Datasheet)", 7 AD3 (in) "Address Bit 3. Tie the address pins high or low to set the I2C serial address to which the LTC4266 responds. This address will be 010A3A2A1A0b. Internally pulled up to VDD.", 8 AD2 (in) "Address Bit 2. See AD3.", 9 AD1 (in) "Address Bit 1. See AD3.", 10 AD0 (in) "Address Bit 0. See AD3.", 15 DGND (power) "Digital Ground. DGND is the return for the VDD supply.", 16 VDD (power) "Logic Power Supply. Connect to a 3.3V power supply relative to DGND. VDD must be bypassed to DGND near the LTC4266 with at least a 0.1uF capacitor.", 17 ~{SHDN1} (in) "Shutdown Port 1, Active Low. When pulled low, S\H\D\N\1\ shuts down port 1, regardless of the state of the internal registers. Pulling S\H\D\N\1\ low is equivalent to setting the Reset Port 1 bit in the Reset Pushbutton (See Datasheet)", 18 ~{SHDN2} (in) "Shutdown Port 2, Active Low. See S\H\D\N\1\.", 19 ~{SHDN3} (in) "Shutdown Port 3, Active Low. See S\H\D\N\1\.", 20 ~{SHDN4} (in) "Shutdown Port 4, Active Low. See S\H\D\N\1\.", 21 AGND (power) "Analog Ground. AGND is the return for the VEE supply.", 22 SENSE4 (in) "Port 4 Current Sense Input. SENSE4 monitors the external MOSFET current via a 0.5ohm or 0.25ohm sense resistor between SENSE4 and VEE. Whenever the voltage across the sense resistor exceeds the overcurrent detection (See Datasheet)", 23 GATE4 (out) "Port 4 Gate Drive. GATE4 should be connected to the gate of the external MOSFET for port 4. When the MOSFET is turned on, the gate voltage is driven to 12V (typ) above VEE. During a current limit condition, the voltage at (See Datasheet)", 24 OUT4 (in) "Port 4 Output Voltage Monitor. OUT4 should be connected to the output port. A current limit foldback circuit limits the power dissipation in the external MOSFET by reducing the current limit threshold when the drain-tosource (See Datasheet)", 25 SENSE3 (in) "Port 3 Current Sense Input. See SENSE4.", 26 GATE3 (out) "Port 3 Gate Drive. See GATE4.", 27 OUT3 (in) "Port 3 Output Voltage Monitor. See OUT4.", 28 VEE (power) "Main Supply Input. Connect to a -45V to -57V supply, relative to AGND.", 29 SENSE2 (in) "Port 2 Current Sense Input. See SENSE4.", 30 GATE2 (out) "Port 2 Gate Drive. See GATE4.", 31 OUT2 (in) "Port 2 Output Voltage Monitor. See OUT4.", 32 SENSE1 (in) "Port 1 Current Sense Input. See SENSE4.", 33 GATE1 (out) "Port 1 Gate Drive. See GATE 4.", 34 OUT1 (in) "Port 1 Output Voltage Monitor. See OUT4.", 35 AUTO (in) "AUTO Pin Mode Input. AUTO pin mode allows the LTC4266 to detect and power up a PD even if there is no host controller present on the I2C bus. The voltage of the AUTO pin determines the state of the internal registers when (See Datasheet)", 36 ~{MSD} (in) "Maskable Shutdown Input. Active low. When pulled low, all ports that have their corresponding mask bit set in the Misc Config register (17h) will be reset, equivalent to pulling the S\H\D\N\ pin low. Internal filtering of (See Datasheet)"
part B pins: 11 NC "All pins identified with "NC" or "DNC" must be left unconnected.", 12 NC "All pins identified with "NC" or "DNC" must be left unconnected.", 13 NC "All pins identified with "NC" or "DNC" must be left unconnected.", 14 NC "All pins identified with "NC" or "DNC" must be left unconnected."

## LTC4266CGW#TRPBF
designator U?
Quad IEEE 802.3at Power over Ethernet Controller, 36-pin SOP (GW-36), 0 to 70 degC, Pb-Free, Tape and Reel; Manufacturer: Linear Technology; PartNumber: LTC4266CGW#TRPBF; Channels(#): 4; Extended Temp: C, I; I2C Interface: yes; Max Power(W): 25.5; PoE Type: 2; PSE/PD: PSE; DatasheetVersion: Rev. D; PackageVersion: Jun-10; PackageReference: GW-36; PackageDescription: 36-Pin Plastic SSOP, Body 15.418 x 7.506 mm, Pitch 0.8 mm; Packing: Tape and Reel; RoHS: TRUE; Mounting Technology: Surface Mount; ComponentLink1Description: Manufacturer URL; ComponentLink1URL: http://www.linear.com/; ComponentLink2Description: Datasheet; ComponentLink2URL: http://cds.linear.com/docs/en/datasheet/4266fd.pdf; ComponentLink3Description: Package Specification; ComponentLink3URL: http://cds.linear.com/docs/en/packaging/SSOP_36_05-08-1642.pdf
footprint LT-GW-36_N (SOP, 36-Leads, Body 15.5x7.6mm, Pitch 0.8mm, IPC Medium Density)
footprint LT-GW-36_L (SOP, 36-Leads, Body 15.5x7.6mm, Pitch 0.8mm, IPC High Density)
footprint LT-GW-36_M (SOP, 36-Leads, Body 15.5x7.6mm, Pitch 0.8mm, IPC Low Density)
part A pins: 1 ~{RESET} (in) "Chip Reset, Active Low. When the R\E\S\E\T\ pin is low, the LTC4266 is held inactive with all ports off and all internal registers reset to their power-up states. When R\E\S\E\T\ is pulled high, the LTC4266 begins normal (See Datasheet)", 2 MID (in) "Midspan Mode Input. When high, the LTC4266 acts as a midspan device. Internally pulled down to DGND.", 3 ~{INT} (hiz) "Interrupt Output, Open Drain. I\N\T\ will pull low when any one of several events occur in the LTC4266. It will return to a high impedance state when bits 6 or 7 are set in the Reset PB register (1Ah). The I\N\T\ signal can (See Datasheet)", 4 SCL (in) "Serial Clock Input. High impedance clock input for the I2C serial interface bus. SCL must be tied high if not used.", 5 SDAOUT (oc) "Serial Data Output, Open Drain Data Output for the I2C Serial Interface Bus. The LTC4266 uses two pins to implement the bidirectional SDA function to simplify optoisolation of the I2C bus. To implement a standard (See Datasheet)", 6 SDAIN (in) "Serial Data Input. High impedance data input for the I2C serial interface bus. The LTC4266 uses two pins to implement the bidirectional SDA function to simplify optoisolation of the I2C bus. To implement a standard (See Datasheet)", 7 AD3 (in) "Address Bit 3. Tie the address pins high or low to set the I2C serial address to which the LTC4266 responds. This address will be 010A3A2A1A0b. Internally pulled up to VDD.", 8 AD2 (in) "Address Bit 2. See AD3.", 9 AD1 (in) "Address Bit 1. See AD3.", 10 AD0 (in) "Address Bit 0. See AD3.", 15 DGND (power) "Digital Ground. DGND is the return for the VDD supply.", 16 VDD (power) "Logic Power Supply. Connect to a 3.3V power supply relative to DGND. VDD must be bypassed to DGND near the LTC4266 with at least a 0.1uF capacitor.", 17 ~{SHDN1} (in) "Shutdown Port 1, Active Low. When pulled low, S\H\D\N\1\ shuts down port 1, regardless of the state of the internal registers. Pulling S\H\D\N\1\ low is equivalent to setting the Reset Port 1 bit in the Reset Pushbutton (See Datasheet)", 18 ~{SHDN2} (in) "Shutdown Port 2, Active Low. See S\H\D\N\1\.", 19 ~{SHDN3} (in) "Shutdown Port 3, Active Low. See S\H\D\N\1\.", 20 ~{SHDN4} (in) "Shutdown Port 4, Active Low. See S\H\D\N\1\.", 21 AGND (power) "Analog Ground. AGND is the return for the VEE supply.", 22 SENSE4 (in) "Port 4 Current Sense Input. SENSE4 monitors the external MOSFET current via a 0.5ohm or 0.25ohm sense resistor between SENSE4 and VEE. Whenever the voltage across the sense resistor exceeds the overcurrent detection (See Datasheet)", 23 GATE4 (out) "Port 4 Gate Drive. GATE4 should be connected to the gate of the external MOSFET for port 4. When the MOSFET is turned on, the gate voltage is driven to 12V (typ) above VEE. During a current limit condition, the voltage at (See Datasheet)", 24 OUT4 (in) "Port 4 Output Voltage Monitor. OUT4 should be connected to the output port. A current limit foldback circuit limits the power dissipation in the external MOSFET by reducing the current limit threshold when the drain-tosource (See Datasheet)", 25 SENSE3 (in) "Port 3 Current Sense Input. See SENSE4.", 26 GATE3 (out) "Port 3 Gate Drive. See GATE4.", 27 OUT3 (in) "Port 3 Output Voltage Monitor. See OUT4.", 28 VEE (power) "Main Supply Input. Connect to a -45V to -57V supply, relative to AGND.", 29 SENSE2 (in) "Port 2 Current Sense Input. See SENSE4.", 30 GATE2 (out) "Port 2 Gate Drive. See GATE4.", 31 OUT2 (in) "Port 2 Output Voltage Monitor. See OUT4.", 32 SENSE1 (in) "Port 1 Current Sense Input. See SENSE4.", 33 GATE1 (out) "Port 1 Gate Drive. See GATE 4.", 34 OUT1 (in) "Port 1 Output Voltage Monitor. See OUT4.", 35 AUTO (in) "AUTO Pin Mode Input. AUTO pin mode allows the LTC4266 to detect and power up a PD even if there is no host controller present on the I2C bus. The voltage of the AUTO pin determines the state of the internal registers when (See Datasheet)", 36 ~{MSD} (in) "Maskable Shutdown Input. Active low. When pulled low, all ports that have their corresponding mask bit set in the Misc Config register (17h) will be reset, equivalent to pulling the S\H\D\N\ pin low. Internal filtering of (See Datasheet)"
part B pins: 11 NC "All pins identified with "NC" or "DNC" must be left unconnected.", 12 NC "All pins identified with "NC" or "DNC" must be left unconnected.", 13 NC "All pins identified with "NC" or "DNC" must be left unconnected.", 14 NC "All pins identified with "NC" or "DNC" must be left unconnected."

## LTC4266CIUHF#PBF
designator U?
Quad PoE / PoE+ / LTPoE++ PSE Controller, 38-pin QFN (UHF-38), -40 to 85 degC, Pb-Free; Manufacturer: Linear Technology; PartNumber: LTC4266CIUHF#PBF; Channels(#): 4; Extended Temp: I; I2C Interface: yes; Max Power(W): 13; PoE Type: 1; DatasheetVersion: Rev. C; PackageVersion: Rev. C, 06/2010; PackageReference: UHF-38; PackageDescription: 38-Pin Plastic QFN, Body 7 x 5 mm, Pitch 0.5 mm; Supplier 1: Digi-Key; Supplier Part Number 1: LTC4266CIUHF#PBF-ND; Supplier 2: Farnell; Supplier Part Number 2: 2293148; Supplier 3: Newark; Supplier Part Number 3: 59T5706; PSE/PD: PSE; RoHS: TRUE; Mounting Technology: Surface Mount; Code_JEDEC: MO-220; ComponentLink1Description: Manufacturer URL; ComponentLink1URL: http://www.linear.com/; ComponentLink2Description: Datasheet; ComponentLink2URL: http://cds.linear.com/docs/en/datasheet/4266acfc.pdf; ComponentLink3Description: Package Specification; ComponentLink3URL: http://cds.linear.com/docs/en/packaging/QFN_38_05-08-1701.pdf
footprint LT-UHF-38_N (QFN, 38-Leads, Body 7.1x5.1mm, Pitch 0.5mm, Thermal Pad 3.15x5.15mm, IPC Medium Density)
footprint LT-UHF-38_L (QFN, 38-Leads, Body 7.1x5.1mm, Pitch 0.5mm, Thermal Pad 3.15x5.15mm, IPC High Density)
footprint LT-UHF-38_M (QFN, 38-Leads, Body 7.1x5.1mm, Pitch 0.5mm, Thermal Pad 3.15x5.15mm, IPC Low Density)
part A pins: 1 SDAOUT (oc) "SDAOUT: Serial Data Output, Open Drain Data Output for the I2C Serial Interface Bus. The LTC4266A/LTC4266C uses two pins to implement the bidirectional SDA function to simplify optoisolation of the I2C bus. To implement a (See Datasheet)", 3 SDAIN (in) "SDAIN: Serial Data Input. High impedance data input for the I2C serial interface bus. The LTC4266A/LTC4266C uses two pins to implement the bidirectional SDA function to simplify optoisolation of the I2C bus. To implement a (See Datasheet)", 4 AD3 (in) "AD3: Address Bit 3. Tie the address pins high or low to set the I2C serial address to which the LTC4266A/LTC4266C responds. This address will be 010A3A2A1A0b. Internally pulled up to VDD.", 5 AD2 (in) "AD2: Address Bit 2. See AD3.", 6 AD1 (in) "AD1: Address Bit 1. See AD3.", 7 AD0 (in) "AD0: Address Bit 0. See AD3.", 10 DGND (power) "DGND: Digital Ground. DGND is the return for the VDD supply.", 13 VDD (power) "VDD: Logic Power Supply. Connect to a 3.3V power supply relative to DGND. VDD must be bypassed to DGND near the LTC4266A/LTC4266C with at least a 0.1uF capacitor.", 14 ~{SHDN1} (in) "S\H\D\N\1\: Shutdown Port 1, Active Low. When pulled low, S\H\D\N\1\ shuts down port 1, regardless of the state of the internal registers. Pulling S\H\D\N\1\ low is equivalent to setting the Reset Port 1 bit in the Reset (See Datasheet)", 15 ~{SHDN2} (in) "S\H\D\N\2\: Shutdown Port 2, Active Low. See S\H\D\N\1\.", 16 ~{SHDN3} (in) "S\H\D\N\3\: Shutdown Port 3, Active Low. See S\H\D\N\1\.", 17 ~{SHDN4} (in) "S\H\D\N\4\: Shutdown Port 4, Active Low. See S\H\D\N\1\.", 18 AGND (power) "AGND: Analog Ground. AGND is the return for the VEE supply.", 19 SENSE4 (in) "SENSE4: Port 4 Current Sense Input. SENSE4 monitors the external MOSFET current via a 0.5ohm or 0.25ohm sense resistor between SENSE4 and VEE. Whenever the voltage across the sense resistor exceeds the overcurrent detection (See Datasheet)", 20 GATE4 (out) "GATE4: Port 4 Gate Drive. GATE4 should be connected to the gate of the external MOSFET for port 4. When the MOSFET is turned on, the gate voltage is driven to 12V (typ) above VEE. During a current limit condition, the (See Datasheet)", 21 OUT4 (in) "OUT4: Port 4 Output Voltage Monitor. OUT4 should be connected to the output port. A current limit foldback circuit limits the power dissipation in the external MOSFET by reducing the current limit threshold when the (See Datasheet)", 22 SENSE3 (in) "SENSE3: Port 3 Current Sense Input. See SENSE4.", 23 GATE3 (out) "GATE3: Port 3 Gate Drive. See GATE4.", 24 OUT3 (in) "OUT3: Port 3 Output Voltage Monitor. See OUT4.", 25 VEE (power) "VEE: Main Supply Input. Connect to a -45V to -57V supply, relative to AGND.", 26 VEE (power) "VEE: Main Supply Input. Connect to a -45V to -57V supply, relative to AGND.", 27 SENSE2 (in) "SENSE2: Port 2 Current Sense Input. See SENSE4.", 28 GATE2 (out) "GATE2: Port 2 Gate Drive. See GATE4.", 29 OUT2 (in) "OUT2: Port 2 Output Voltage Monitor. See OUT4.", 30 SENSE1 (in) "SENSE1: Port 1 Current Sense Input. See SENSE4.", 31 GATE1 (out) "GATE1: Port 1 Gate Drive. See GATE 4.", 32 OUT1 (in) "OUT1: Port 1 Output Voltage Monitor. See OUT4.", 33 AUTO (in) "AUTO: AUTO Pin Mode Input. AUTO pin mode allows the LTC4266A/LTC4266C to detect and power up a PD even if there is no host controller present on the I2C bus. The voltage of the AUTO pin determines the state of the internal (See Datasheet)", 34 ~{MSD} (in) "M\S\D\: Maskable Shutdown Input. Active low. When pulled low, all ports that have their corresponding mask bit set in the Misc Config register (17h) will be reset, equivalent to pulling the S\H\D\N\ pin low. Internal (See Datasheet)", 35 ~{RESET} (in) "R\E\S\E\T\: Chip R\E\S\E\T\, Active Low. When the R\E\S\E\T\ pin is low, the LTC4266A/LTC4266C is held inactive with all ports off and all internal registers R\E\S\E\T\ to their power-up states. When R\E\S\E\T\ is pulled (See Datasheet)", 36 MID (in) "MID: Midspan Mode Input. When high, the LTC4266A/LTC4266C acts as a midspan device. Internally pulled down to DGND.", 37 ~{INT} (hiz) "I\N\T\: I\N\T\errupt Output, Open Drain. I\N\T\ will pull low when any one of several events occur in the LTC4266A/LTC4266C. It will return to a high impedance state when bits 6 or 7 are set in the Reset PB register (1Ah). (See Datasheet)", 38 SCL (in) "SCL: Serial Clock Input. High impedance clock input for the I2C serial interface bus. SCL must be tied high if not used.", 39 EP (power)
part B pins: 2 NC "NC, DNC: All pins identified with "NC" or "DNC" must be left unconnected.", 8 DNC "NC, DNC: All pins identified with "NC" or "DNC" must be left unconnected.", 9 NC "NC, DNC: All pins identified with "NC" or "DNC" must be left unconnected.", 11 NC "NC, DNC: All pins identified with "NC" or "DNC" must be left unconnected.", 12 NC "NC, DNC: All pins identified with "NC" or "DNC" must be left unconnected."

## LTC4266CIUHF#TRPBF
designator U?
Quad PoE / PoE+ / LTPoE++ PSE Controller, 38-pin QFN (UHF-38), -40 to 85 degC, Pb-Free, Tape and Reel; Manufacturer: Linear Technology; PartNumber: LTC4266CIUHF#TRPBF; Channels(#): 4; Extended Temp: I; I2C Interface: yes; Max Power(W): 13; PoE Type: 1; DatasheetVersion: Rev. C; PackageVersion: Rev. C, 06/2010; PackageReference: UHF-38; PackageDescription: 38-Pin Plastic QFN, Body 7 x 5 mm, Pitch 0.5 mm; Supplier 1: Digi-Key; Supplier Part Number 1: LTC4266CIUHF#TRPBF-ND; Packing: Tape and Reel; PSE/PD: PSE; RoHS: TRUE; Mounting Technology: Surface Mount; Code_JEDEC: MO-220; ComponentLink1Description: Manufacturer URL; ComponentLink1URL: http://www.linear.com/; ComponentLink2Description: Datasheet; ComponentLink2URL: http://cds.linear.com/docs/en/datasheet/4266acfc.pdf; ComponentLink3Description: Package Specification; ComponentLink3URL: http://cds.linear.com/docs/en/packaging/QFN_38_05-08-1701.pdf
footprint LT-UHF-38_N (QFN, 38-Leads, Body 7.1x5.1mm, Pitch 0.5mm, Thermal Pad 3.15x5.15mm, IPC Medium Density)
footprint LT-UHF-38_L (QFN, 38-Leads, Body 7.1x5.1mm, Pitch 0.5mm, Thermal Pad 3.15x5.15mm, IPC High Density)
footprint LT-UHF-38_M (QFN, 38-Leads, Body 7.1x5.1mm, Pitch 0.5mm, Thermal Pad 3.15x5.15mm, IPC Low Density)
part A pins: 1 SDAOUT (oc) "SDAOUT: Serial Data Output, Open Drain Data Output for the I2C Serial Interface Bus. The LTC4266A/LTC4266C uses two pins to implement the bidirectional SDA function to simplify optoisolation of the I2C bus. To implement a (See Datasheet)", 3 SDAIN (in) "SDAIN: Serial Data Input. High impedance data input for the I2C serial interface bus. The LTC4266A/LTC4266C uses two pins to implement the bidirectional SDA function to simplify optoisolation of the I2C bus. To implement a (See Datasheet)", 4 AD3 (in) "AD3: Address Bit 3. Tie the address pins high or low to set the I2C serial address to which the LTC4266A/LTC4266C responds. This address will be 010A3A2A1A0b. Internally pulled up to VDD.", 5 AD2 (in) "AD2: Address Bit 2. See AD3.", 6 AD1 (in) "AD1: Address Bit 1. See AD3.", 7 AD0 (in) "AD0: Address Bit 0. See AD3.", 10 DGND (power) "DGND: Digital Ground. DGND is the return for the VDD supply.", 13 VDD (power) "VDD: Logic Power Supply. Connect to a 3.3V power supply relative to DGND. VDD must be bypassed to DGND near the LTC4266A/LTC4266C with at least a 0.1uF capacitor.", 14 ~{SHDN1} (in) "S\H\D\N\1\: Shutdown Port 1, Active Low. When pulled low, S\H\D\N\1\ shuts down port 1, regardless of the state of the internal registers. Pulling S\H\D\N\1\ low is equivalent to setting the Reset Port 1 bit in the Reset (See Datasheet)", 15 ~{SHDN2} (in) "S\H\D\N\2\: Shutdown Port 2, Active Low. See S\H\D\N\1\.", 16 ~{SHDN3} (in) "S\H\D\N\3\: Shutdown Port 3, Active Low. See S\H\D\N\1\.", 17 ~{SHDN4} (in) "S\H\D\N\4\: Shutdown Port 4, Active Low. See S\H\D\N\1\.", 18 AGND (power) "AGND: Analog Ground. AGND is the return for the VEE supply.", 19 SENSE4 (in) "SENSE4: Port 4 Current Sense Input. SENSE4 monitors the external MOSFET current via a 0.5ohm or 0.25ohm sense resistor between SENSE4 and VEE. Whenever the voltage across the sense resistor exceeds the overcurrent detection (See Datasheet)", 20 GATE4 (out) "GATE4: Port 4 Gate Drive. GATE4 should be connected to the gate of the external MOSFET for port 4. When the MOSFET is turned on, the gate voltage is driven to 12V (typ) above VEE. During a current limit condition, the (See Datasheet)", 21 OUT4 (in) "OUT4: Port 4 Output Voltage Monitor. OUT4 should be connected to the output port. A current limit foldback circuit limits the power dissipation in the external MOSFET by reducing the current limit threshold when the (See Datasheet)", 22 SENSE3 (in) "SENSE3: Port 3 Current Sense Input. See SENSE4.", 23 GATE3 (out) "GATE3: Port 3 Gate Drive. See GATE4.", 24 OUT3 (in) "OUT3: Port 3 Output Voltage Monitor. See OUT4.", 25 VEE (power) "VEE: Main Supply Input. Connect to a -45V to -57V supply, relative to AGND.", 26 VEE (power) "VEE: Main Supply Input. Connect to a -45V to -57V supply, relative to AGND.", 27 SENSE2 (in) "SENSE2: Port 2 Current Sense Input. See SENSE4.", 28 GATE2 (out) "GATE2: Port 2 Gate Drive. See GATE4.", 29 OUT2 (in) "OUT2: Port 2 Output Voltage Monitor. See OUT4.", 30 SENSE1 (in) "SENSE1: Port 1 Current Sense Input. See SENSE4.", 31 GATE1 (out) "GATE1: Port 1 Gate Drive. See GATE 4.", 32 OUT1 (in) "OUT1: Port 1 Output Voltage Monitor. See OUT4.", 33 AUTO (in) "AUTO: AUTO Pin Mode Input. AUTO pin mode allows the LTC4266A/LTC4266C to detect and power up a PD even if there is no host controller present on the I2C bus. The voltage of the AUTO pin determines the state of the internal (See Datasheet)", 34 ~{MSD} (in) "M\S\D\: Maskable Shutdown Input. Active low. When pulled low, all ports that have their corresponding mask bit set in the Misc Config register (17h) will be reset, equivalent to pulling the S\H\D\N\ pin low. Internal (See Datasheet)", 35 ~{RESET} (in) "R\E\S\E\T\: Chip R\E\S\E\T\, Active Low. When the R\E\S\E\T\ pin is low, the LTC4266A/LTC4266C is held inactive with all ports off and all internal registers R\E\S\E\T\ to their power-up states. When R\E\S\E\T\ is pulled (See Datasheet)", 36 MID (in) "MID: Midspan Mode Input. When high, the LTC4266A/LTC4266C acts as a midspan device. Internally pulled down to DGND.", 37 ~{INT} (hiz) "I\N\T\: I\N\T\errupt Output, Open Drain. I\N\T\ will pull low when any one of several events occur in the LTC4266A/LTC4266C. It will return to a high impedance state when bits 6 or 7 are set in the Reset PB register (1Ah). (See Datasheet)", 38 SCL (in) "SCL: Serial Clock Input. High impedance clock input for the I2C serial interface bus. SCL must be tied high if not used.", 39 EP (power)
part B pins: 2 NC "NC, DNC: All pins identified with "NC" or "DNC" must be left unconnected.", 8 DNC "NC, DNC: All pins identified with "NC" or "DNC" must be left unconnected.", 9 NC "NC, DNC: All pins identified with "NC" or "DNC" must be left unconnected.", 11 NC "NC, DNC: All pins identified with "NC" or "DNC" must be left unconnected.", 12 NC "NC, DNC: All pins identified with "NC" or "DNC" must be left unconnected."